# Altium footprint library Avago Technologies Footprints.PcbLib: 71 footprints (part 2 of 5)
Each footprint in its own frame and in the unit in brackets; x right, y up, seen from the top. Pads: shape width x height; smd on the part's side, far side on the other; paste and mask are expansions set on the pad; w line width, h text height; cw(c..) or ccw(c..) is an arc to the next point about the centre after c.
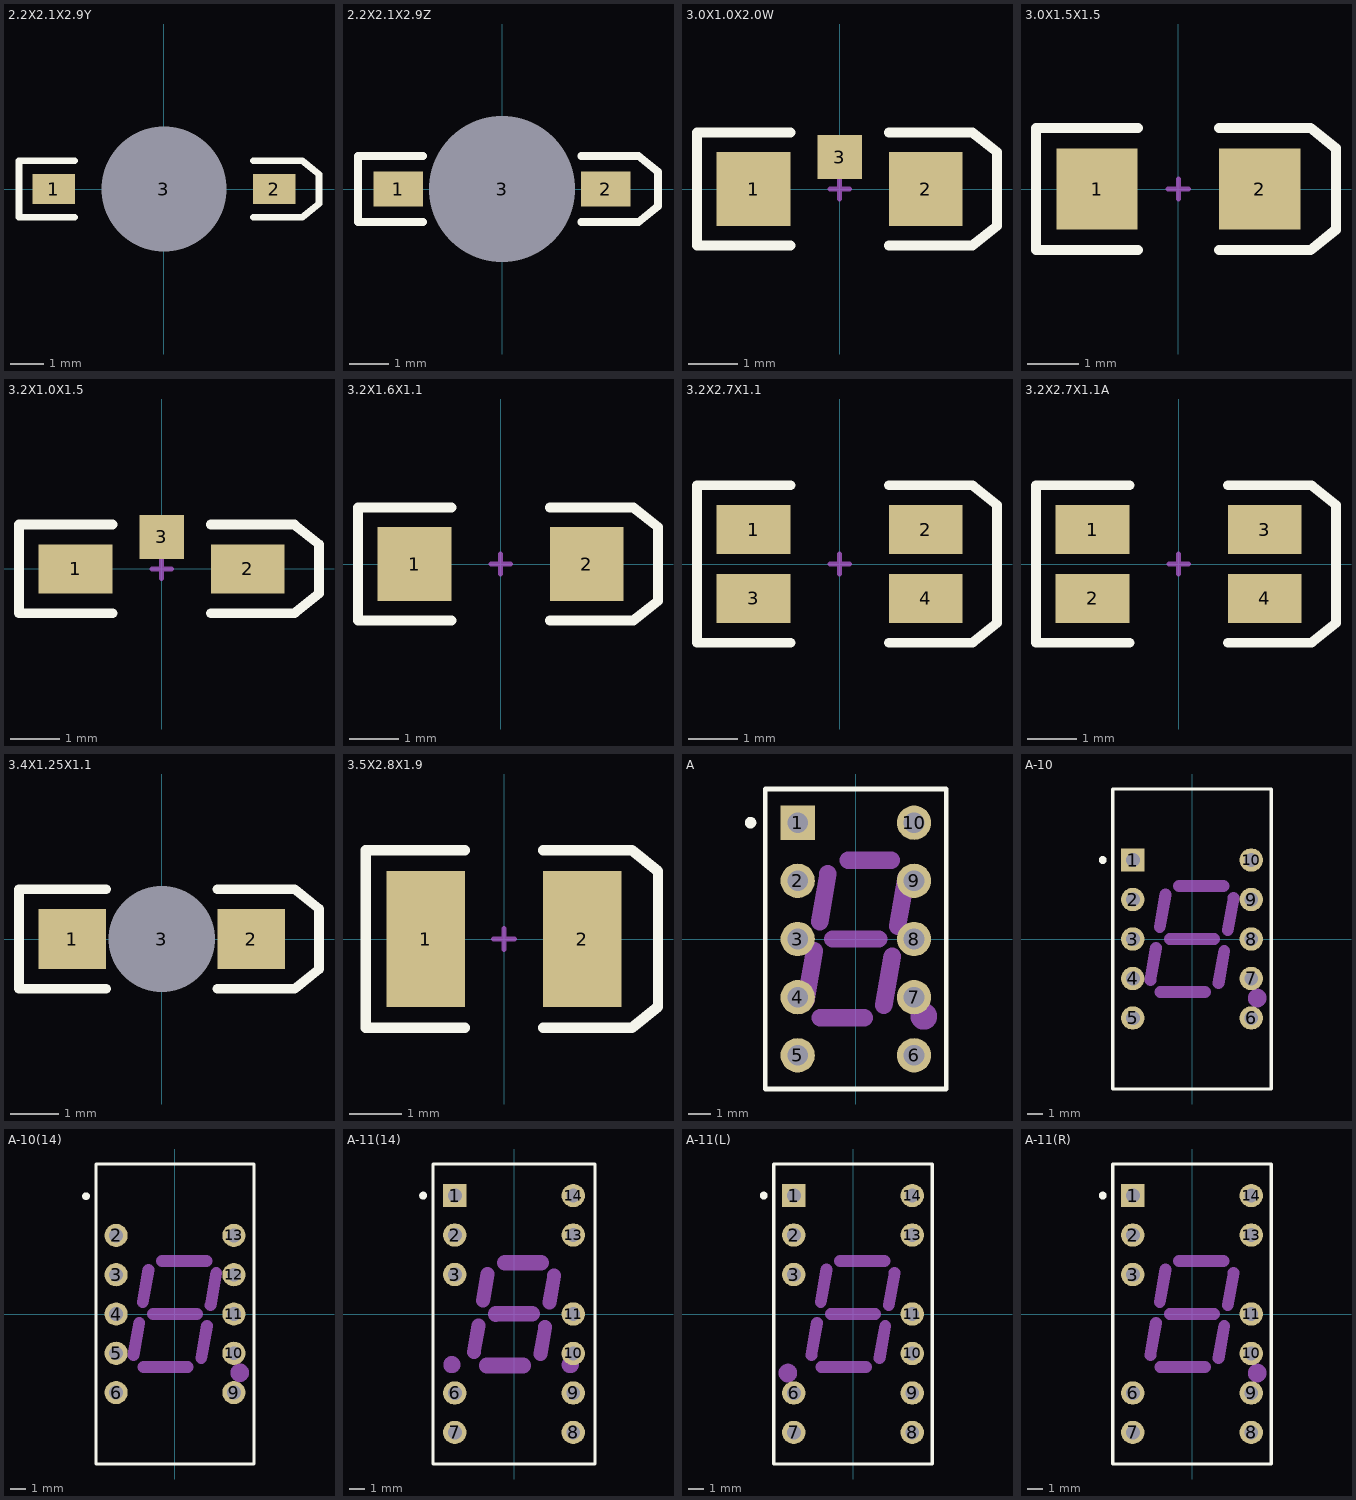
[diagram p1: the footprints below, top view; thin cyan lines are the x and y axes]

## 2.2X2.1X2.9Y [mm] "SM LED; 2 Yoke Leads"
pads (3):
  rect 1.27x0.89 smd: 1(-3.3,0) 2(3.3,0)
  round 3.45 hole 3.75: 3(0,0)
Top Overlay:
  lines w0.2: -2.665,-0.845 -4.335,-0.845 -4.335,0.845 -2.665,0.845 ; 2.665,-0.845 4.135,-0.845 4.635,-0.445 4.635,0.445 4.135,0.845 2.665,0.845

## 2.2X2.1X2.9Z [mm] "SM LED; 2 Z-Bend Leads"
pads (3):
  rect 1.27x0.89 smd: 1(-2.665,0) 2(2.665,0)
  round 3.45 hole 3.75: 3(0,0)
Top Overlay:
  lines w0.2: -2.03,-0.845 -3.7,-0.845 -3.7,0.845 -2.03,0.845 ; 2.03,-0.845 3.5,-0.845 4,-0.445 4,0.445 3.5,0.845 2.03,0.845

## 3.0X1.0X2.0W [mm] "SM Right-Angle Mount LED; 3 Leads; Body 3.0 x 1.0 x 2.0 mm (LxWxH)"
height 2
pads (3):
  rect 1.5x1.5 smd: 1(-1.75,0) 2(1.75,0)
  rect 0.9x0.9 smd: 3(0,0.65)
Top Overlay:
  lines w0.2: -1,-1.15 -2.9,-1.15 -2.9,1.15 -1,1.15 ; 1,-1.15 2.7,-1.15 3.2,-0.75 3.2,0.75 2.7,1.15 1,1.15
Mechanical 1:
  lines w0.1: -0.2,0 0.2,0 ; 0,-0.2 0,0.2

## 3.0X1.5X1.5 [mm] "SM LED; 2 Flat Leads"
height 1.7
pads (2):
  rect 1.6x1.6 smd: 1(-1.6,0) 2(1.6,0)
Top Overlay:
  lines w0.2: -2.8,-1.2 -0.8,-1.2 ; -2.8,-1.15 -2.8,1.15 ; -2.8,1.2 -0.8,1.2 ; 0.8,-1.2 2.6,-1.2 3.1,-0.8 3.1,0.8 2.6,1.2 0.8,1.2
Mechanical 1:
  lines w0.1: -0.2,0 0.2,0 ; 0,-0.2 0,0.2

## 3.2X1.0X1.5 [mm] "SM Right-Angle Mount LED; 3 Leads; Body 3.2 x 1.0 x 1.5 mm (LxWxH)"
height 1.5
pads (3):
  rect 1.5x1 smd: 1(-1.75,0) 2(1.75,0)
  rect 0.9x0.9 smd: 3(0,0.65)
Top Overlay:
  lines w0.2: -1,-0.9 -2.9,-0.9 -2.9,0.9 -1,0.9 ; 1,-0.9 2.7,-0.9 3.2,-0.5 3.2,0.5 2.7,0.9 1,0.9
Mechanical 1:
  lines w0.1: -0.2,0 0.2,0 ; 0,-0.2 0,0.2

## 3.2X1.6X1.1 [mm] "SM LED; 2 Flat Leads"
height 1.2
pads (2):
  rect 1.5x1.5 smd: 1(-1.75,0) 2(1.75,0)
Top Overlay:
  lines w0.2: -1,-1.15 -2.9,-1.15 -2.9,1.15 -1,1.15 ; 1,-1.15 2.7,-1.15 3.2,-0.75 3.2,0.75 2.7,1.15 1,1.15
Mechanical 1:
  lines w0.1: -0.2,0 0.2,0 ; 0,-0.2 0,0.2

## 3.2X2.7X1.1 [mm] "SM LED, Bi-Colour; 4 Flat Leads; Body 3.2 x 2.7 x 1.1 mm (LxWxH)"
height 1.1
pads (4):
  rect 1.5x1 smd: 1(-1.75,0.7) 2(1.75,0.7) 3(-1.75,-0.7) 4(1.75,-0.7)
Top Overlay:
  lines w0.2: -1,-1.6 -2.9,-1.6 -2.9,1.6 -1,1.6 ; 1,-1.6 2.7,-1.6 3.2,-1.2 3.2,1.2 2.7,1.6 1,1.6
Mechanical 1:
  lines w0.1: -0.2,0 0.2,0 ; 0,-0.2 0,0.2

## 3.2X2.7X1.1A [mm] "SM LED, Bi-Colour; 4 Flat Leads; Body 3.2 x 2.7 x 1.1 mm (LxWxH)"
height 1.1
pads (4):
  rect 1.5x1 smd: 1(-1.75,0.7) 2(-1.75,-0.7) 3(1.75,0.7) 4(1.75,-0.7)
Top Overlay:
  lines w0.2: -1,-1.6 -2.9,-1.6 -2.9,1.6 -1,1.6 ; 1,-1.6 2.7,-1.6 3.2,-1.2 3.2,1.2 2.7,1.6 1,1.6
Mechanical 1:
  lines w0.1: -0.2,0 0.2,0 ; 0,-0.2 0,0.2

## 3.4X1.25X1.1 [mm] "SM Reverse Mount LED; 2 Flat Leads"
height 1.2
pads (3):
  rect 1.4x1.25 smd: 1(-1.85,0) 2(1.85,0)
  round 1.9 hole 2.2: 3(0,0)
Top Overlay:
  lines w0.2: -1.15,-1.025 -2.95,-1.025 -2.95,1.025 -1.15,1.025 ; 1.15,-1.025 2.75,-1.025 3.25,-0.625 3.25,0.625 2.75,1.025 1.15,1.025

## 3.5X2.8X1.9 [mm] "SM LED; 2 C-Bend Leads; Body 3.5 x 2.8 x 1.9 mm, inc leads (LxWxH typ)"
height 2.1
pads (2):
  rect 1.5x2.6 smd: 1(-1.5,0) 2(1.5,0)
Top Overlay:
  lines w0.2: -0.75,-1.7 -2.65,-1.7 -2.65,1.7 -0.75,1.7 ; 0.75,-1.7 2.45,-1.7 2.95,-1.3 2.95,1.3 2.45,1.7 0.75,1.7
Mechanical 1:
  lines w0.1: -0.2,0 0.2,0 ; 0,-0.2 0,0.2

## A [mm] "LED, 7-Segment Display, 7.62 mm, RHD; 10 Leads; Row Space 5.08 mm; Pitch 2.54 mm"
height 6.34
pads (10):
  rect 1.5x1.5 hole 0.9: 1(-2.54,5.08)
  round 1.5 hole 0.9: 2(-2.54,2.54) 3(-2.54,0) 4(-2.54,-2.54) 5(-2.54,-5.08) 6(2.54,-5.08) 7(2.54,-2.54) 8(2.54,0) 9(2.54,2.54) 10(2.54,5.08)
Top Overlay:
  circle w0.25: c-4.6,5.08 r0.125
  lines w0.2: -3.95,-6.55 3.95,-6.55 3.95,6.55 -3.95,6.55 -3.95,-6.55
Mechanical 1:
  circle w0.86: c2.97,-3.38 r0.15
  lines w0.762: -2.19,-2.69 -1.81,-0.52 ; -1.58,0.76 -1.22,2.84 ; -1.56,-3.43 0.36,-3.43 ; -1.004,0 1.004,0 ; -0.34,3.43 1.55,3.43 ; 1.22,-2.89 1.59,-0.76 ; 1.82,0.56 2.2,2.69

## A-10 [mm] "LED, 7-Segment Display, 7.62 mm, RHD; 10 Leads; Row Space 7.62 mm; Pitch 2.54 mm"
height 6.35
pads (10):
  rect 1.5x1.5 hole 0.9: 1(-3.81,5.08)
  round 1.5 hole 0.9: 2(-3.81,2.54) 3(-3.81,0) 4(-3.81,-2.54) 5(-3.81,-5.08) 6(3.81,-5.08) 7(3.81,-2.54) 8(3.81,0) 9(3.81,2.54) 10(3.81,5.08)
Top Overlay:
  circle w0.25: c-5.75,5.08 r0.125
  lines w0.2: -5.1,-9.65 -5.1,9.65 5.1,9.65 5.1,-9.65 -5.1,-9.65
Mechanical 1:
  circle w0.86: c4.19,-3.8 r0.17
  lines w0.762: -2.681,-2.652 -2.316,-0.564 ; -2.078,0.763 -1.71,2.857 ; -2.04,-3.419 0.824,-3.419 ; -1.43,0 1.43,0 ; -0.837,3.419 2.029,3.419 ; 1.699,-2.85 2.071,-0.764 ; 2.303,0.565 2.675,2.657

## A-10(14) [mm] "LED, 7-Segment Display, 7.62 mm, RHD; 14 Leads (4 Absent); Row Space 7.62 mm; Pitch 2.54 mm"
height 6.35
pads (10):
  round 1.5 hole 0.9: 2(-3.81,5.08) 3(-3.81,2.54) 4(-3.81,0) 5(-3.81,-2.54) 6(-3.81,-5.08) 9(3.81,-5.08) 10(3.81,-2.54) 11(3.81,0) 12(3.81,2.54) 13(3.81,5.08)
Top Overlay:
  circle w0.25: c-5.75,7.62 r0.125
  lines w0.2: -5.1,-9.7 5.1,-9.7 5.1,9.7 -5.1,9.7 -5.1,-9.7
Mechanical 1:
  circle w0.86: c4.19,-3.8 r0.17
  lines w0.762: -2.681,-2.652 -2.316,-0.564 ; -2.078,0.763 -1.71,2.857 ; -2.04,-3.419 0.824,-3.419 ; -1.43,0 1.43,0 ; -0.837,3.419 2.029,3.419 ; 1.699,-2.85 2.071,-0.764 ; 2.303,0.565 2.675,2.657

## A-11(14) [mm] "LED, 7-Segment Display, 7.62 mm, LHD; 14 Leads; Row Space 7.62 mm; Pitch 2.54 mm"
height 6.35
pads (11):
  rect 1.5x1.5 hole 0.9: 1(-3.81,7.62)
  round 1.5 hole 0.9: 2(-3.81,5.08) 3(-3.81,2.54) 6(-3.81,-5.08) 7(-3.81,-7.62) 8(3.81,-7.62) 9(3.81,-5.08) 10(3.81,-2.54) 11(3.81,0) 13(3.81,5.08) 14(3.81,7.62)
Top Overlay:
  circle w0.25: c-5.85,7.62 r0.125
  lines w0.2: -5.2,-9.65 5.2,-9.65 5.2,9.65 -5.2,9.65 -5.2,-9.65
Mechanical 1:
  circle w0.85: c3.62,-3.26 r0.126
  circle w0.85: c-4,-3.26 r0.126
  lines w0.9: -2.585,-2.458 -2.284,-0.752 ; -2.003,0.855 -1.699,2.559 ; 1.698,-2.559 2.002,-0.835 ; 2.28,0.751 2.582,2.47
  lines w1: -1.769,-3.312 0.598,-3.312 ; -1.183,0 1.179,0.004 ; -0.601,3.309 1.766,3.311

## A-11(L) [mm] "LED, 7-Segment Display, 7.62 mm, LHD; 14 Leads (3 Absent); Row Space 7.62 mm; Pitch 2.54 mm"
height 6.35
pads (11):
  rect 1.5x1.5 hole 0.9: 1(-3.81,7.62)
  round 1.5 hole 0.9: 2(-3.81,5.08) 3(-3.81,2.54) 6(-3.81,-5.08) 7(-3.81,-7.62) 8(3.81,-7.62) 9(3.81,-5.08) 10(3.81,-2.54) 11(3.81,0) 13(3.81,5.08) 14(3.81,7.62)
Top Overlay:
  circle w0.25: c-5.75,7.62 r0.125
  lines w0.2: -5.1,-9.65 5.1,-9.65 5.1,9.65 -5.1,9.65 -5.1,-9.65
Mechanical 1:
  circle w0.86: c-4.19,-3.8 r0.17
  lines w0.762: -2.681,-2.652 -2.316,-0.564 ; -2.078,0.763 -1.71,2.857 ; -2.04,-3.419 0.824,-3.419 ; -1.43,0 1.43,0 ; -0.837,3.419 2.029,3.419 ; 1.699,-2.85 2.071,-0.764 ; 2.303,0.565 2.675,2.657

## A-11(R) [mm] "LED, 7-Segment Display, 7.62 mm, RHD; 14 Leads (3 Absent); Row Space 7.62 mm; Pitch 2.54 mm"
height 6.35
pads (11):
  rect 1.5x1.5 hole 0.9: 1(-3.81,7.62)
  round 1.5 hole 0.9: 2(-3.81,5.08) 3(-3.81,2.54) 6(-3.81,-5.08) 7(-3.81,-7.62) 8(3.81,-7.62) 9(3.81,-5.08) 10(3.81,-2.54) 11(3.81,0) 13(3.81,5.08) 14(3.81,7.62)
Top Overlay:
  circle w0.25: c-5.75,7.62 r0.125
  lines w0.2: -5.1,-9.65 5.1,-9.65 5.1,9.65 -5.1,9.65 -5.1,-9.65
Mechanical 1:
  circle w0.86: c4.19,-3.8 r0.17
  lines w0.762: -2.681,-2.652 -2.316,-0.564 ; -2.078,0.763 -1.71,2.857 ; -2.04,-3.419 0.824,-3.419 ; -1.43,0 1.43,0 ; -0.837,3.419 2.029,3.419 ; 1.699,-2.85 2.071,-0.764 ; 2.303,0.565 2.675,2.657